# EAGLE library part DSPIC30F2012-30I/SP (library Microchip_By_element14_Batch_1)
16-bit Digital Signal Controllers
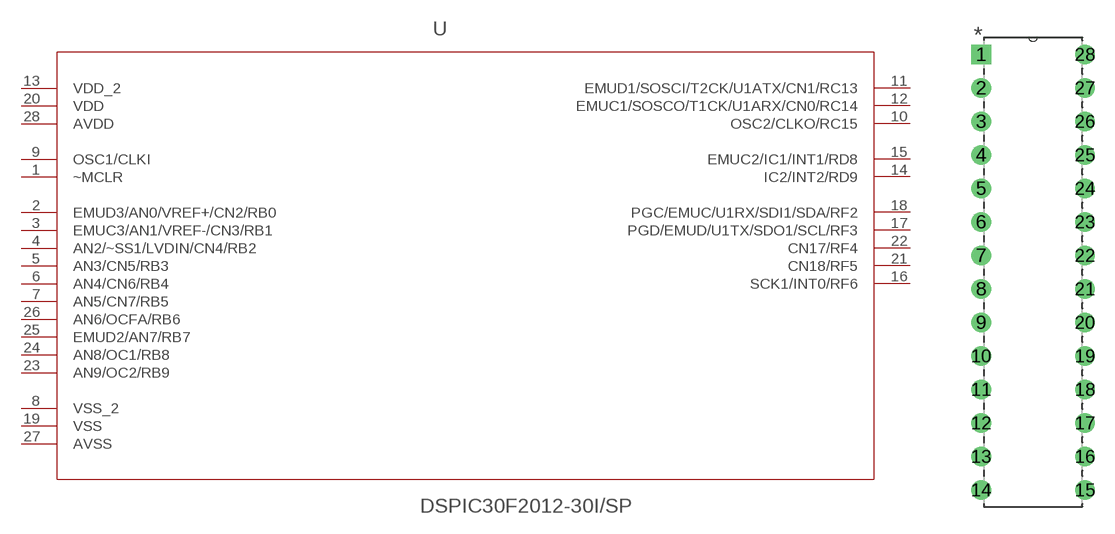
[diagram p282: symbol with the pads of DIP254P762X508-28; footprint DIP254P762X508-28]

Designator prefix -

## DSPIC30F2012-30I/SP (DESCRIPTION: 16-bit Digital Signal Controllers; MPN: DSPIC30F2012-30I/SP; OC_FARNELL: 1332025; OC_NEWARK: 71J3675; PACKAGE: DIP-28; SUPPLIER: Microchip)  [DIP254P762X508-28]
1  ~MCLR  in
2  EMUD3/AN0/VREF+/CN2/RB0
3  EMUC3/AN1/VREF-/CN3/RB1
4  AN2/~SS1/LVDIN/CN4/RB2
5  AN3/CN5/RB3
6  AN4/CN6/RB4
7  AN5/CN7/RB5
8  VSS_2  pwr
9  OSC1/CLKI  in
10  OSC2/CLKO/RC15
11  EMUD1/SOSCI/T2CK/U1ATX/CN1/RC13
12  EMUC1/SOSCO/T1CK/U1ARX/CN0/RC14
13  VDD_2  pwr
14  IC2/INT2/RD9
15  EMUC2/IC1/INT1/RD8
16  SCK1/INT0/RF6
17  PGD/EMUD/U1TX/SDO1/SCL/RF3
18  PGC/EMUC/U1RX/SDI1/SDA/RF2
19  VSS  pwr
20  VDD  pwr
21  CN18/RF5
22  CN17/RF4
23  AN9/OC2/RB9
24  AN8/OC1/RB8
25  EMUD2/AN7/RB7
26  AN6/OCFA/RB6
27  AVSS  pas
28  AVDD  pas

## Footprint DIP254P762X508-28 (pad centres in mm)
drill 0.991 square: 1 -7.874,33.02
drill 0.991: 2 -7.874,30.48; 3 -7.874,27.94; 4 -7.874,25.4; 5 -7.874,22.86; 6 -7.874,20.32; 7 -7.874,17.78; 8 -7.874,15.24; 9 -7.874,12.7; 10 -7.874,10.16; 11 -7.874,7.62; 12 -7.874,5.08; 13 -7.874,2.54; 14 -7.874,0; 15 0,0; 16 0,2.54; 17 0,5.08; 18 0,7.62; 19 0,10.16; 20 0,12.7; 21 0,15.24; 22 0,17.78; 23 0,20.32; 24 0,22.86; 25 0,25.4; 26 0,27.94; 27 0,30.48; 28 0,33.02